# Altium integrated library Cypress USB Controllers.IntLib: 169 symbols (part 3 of 16)
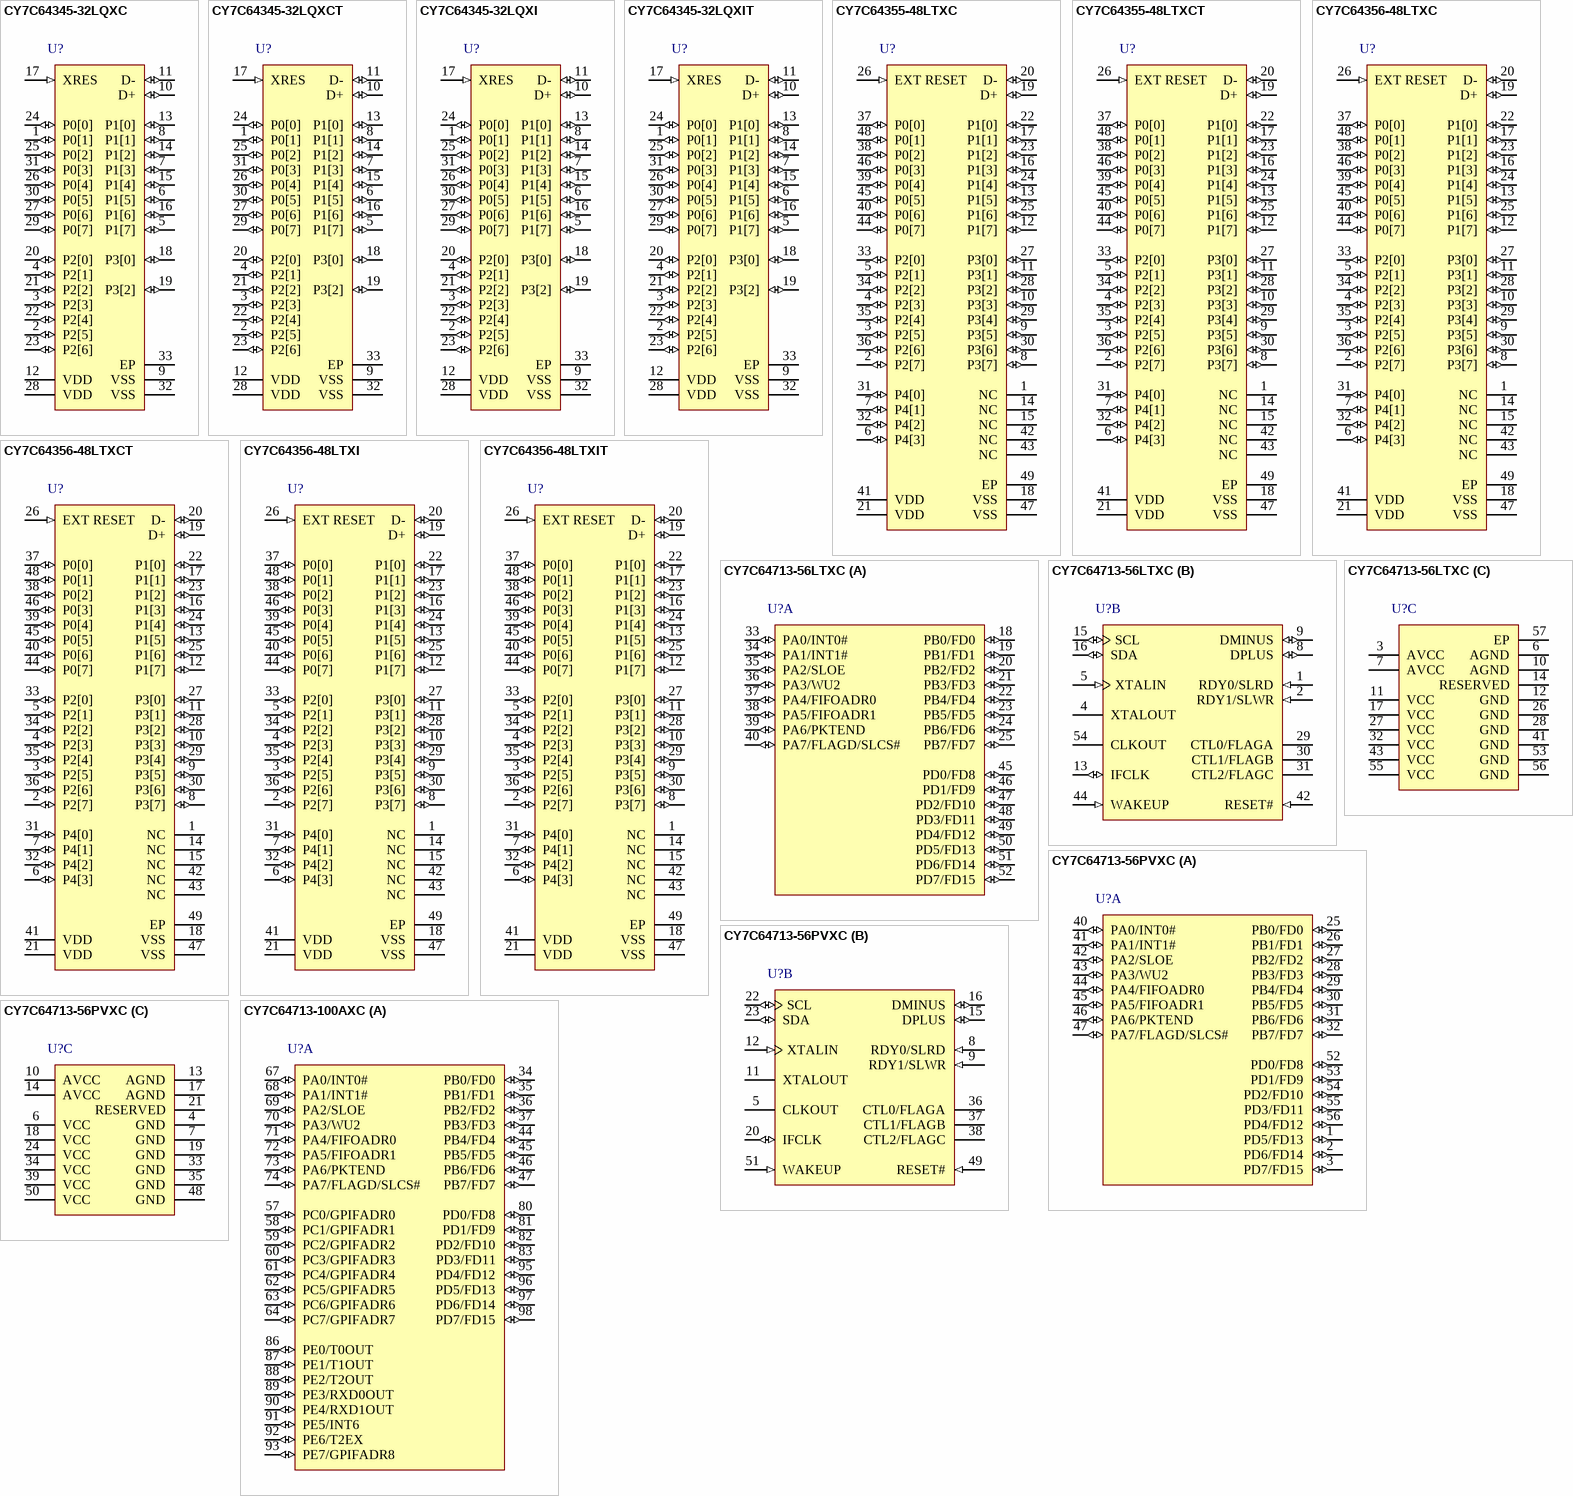
[diagram p24: symbols CY7C64345-32LQXC to CY7C64713-100AXC]

## CY7C64345-32LQXC
designator U?
enCoRe(TM) V Full Speed USB Controller, 16 KB, 25 I/Os, 3 to 5.5 V, 0 to 70 degC, 32-Pin QFN (LQX32), Tray; Manufacturer: Cypress; PartNumber: CY7C64345-32LQXC; CPU Core: M8C; Max. Operating Voltage (V): 5.5; Memory Architecture: Flash; Memory Size (KB): 16; Min. Operating Voltage (V): 3; No. of I/Os: 25; DatasheetVersion: Rev. *R; PackageVersion: Rev. *E; PackageReference: LQX32; PackageDescription: 32-Pin QFN (5 x 4 x 0.55 mm) LQ32 3.5 x 3.5 E-Pad (Sawn); Supplier 1: Digi-Key; Supplier Part Number 1: 428-2887-ND; Supplier 2: Mouser; Supplier Part Number 2: 727-CY7C64345-32LXC; Max. Operating Temp. (degreesC): 70; Min. Operating Temp. (degreesC): 0; Packing: Tray; RoHS: Pb-Free; Mounting Technology: Surface Mount; Code_JEDEC: MO-248; ComponentLink1Description: Manufacturer URL; ComponentLink1URL: http://www.cypress.com/; ComponentLink2Description: Datasheet; ComponentLink2URL: http://www.cypress.com/?docID=46968; ComponentLink3Description: Package Specification; ComponentLink3URL: http://www.cypress.com/?docID=46968
footprint CYP-LQX32_N (QFN, 32-Leads, Body 5x5mm, Pitch 0.5mm, Thermal Pad 3.5x3.5mm, IPC Medium Density)
footprint CYP-LQX32_L (QFN, 32-Leads, Body 5x5mm, Pitch 0.5mm, Thermal Pad 3.5X3.5mm, IPC High Density)
footprint CYP-LQX32_M (QFN, 32-Leads, Body 5x5mm, Pitch 0.5mm, Thermal Pad 3.5x3.5mm, IPC Low Density)
pins: 1 P0[1] (io) "Digital I/O", 2 P2[5] (io) "Digital I/O, crystal output (Xout)", 3 P2[3] (io) "Digital I/O, crystal Input (Xin)", 4 P2[1] (io) "Digital I/O", 5 P1[7] (io) "Digital I/O, I2C SCL, SPI SS", 6 P1[5] (io) "Digital I/O, I2C SDA, SPI MISO", 7 P1[3] (io) "Digital I/O, SPI CLK", 8 P1[1] (io) "Digital I/O, ISSP CLK, I2C SCL, SPI MOSI", 9 VSS (power) "Ground", 10 D+ (io) "USB PHY", 11 D- (io) "USB PHY", 12 VDD (power) "Supply voltage", 13 P1[0] (io) "Digital I/O, ISSP DATA, I2C SDA, SPI CLK", 14 P1[2] (io) "Digital I/O", 15 P1[4] (io) "Digital I/O, optional external clock input (EXTCLK)", 16 P1[6] (io) "Digital I/O", 17 XRES (in) "Active high external reset with internal pull down", 18 P3[0] (io) "Digital I/O", 19 P3[2] (io) "Digital I/O", 20 P2[0] (io) "Digital I/O", 21 P2[2] (io) "Digital I/O", 22 P2[4] (io) "Digital I/O", 23 P2[6] (io) "Digital I/O", 24 P0[0] (io) "Digital I/O", 25 P0[2] (io) "Digital I/O", 26 P0[4] (io) "Digital I/O", 27 P0[6] (io) "Digital I/O", 28 VDD (power) "Supply voltage", 29 P0[7] (io) "Digital I/O", 30 P0[5] (io) "Digital I/O", 31 P0[3] (io) "Digital I/O", 32 VSS (power) "Ground", 33 EP (power) "Ensure the center pad is connected to ground"

## CY7C64345-32LQXCT
designator U?
enCoRe(TM) V Full Speed USB Controller, 16 KB, 25 I/Os, 3 to 5.5 V, 0 to 70 degC, 32-Pin QFN (LQX32), Tape and Reel; Manufacturer: Cypress; PartNumber: CY7C64345-32LQXCT; CPU Core: M8C; Max. Operating Voltage (V): 5.5; Memory Architecture: Flash; Memory Size (KB): 16; Min. Operating Voltage (V): 3; No. of I/Os: 25; DatasheetVersion: Rev. *R; PackageVersion: Rev. *E; PackageReference: LQX32; PackageDescription: 32-Pin QFN (5 x 4 x 0.55 mm) LQ32 3.5 x 3.5 E-Pad (Sawn); Supplier 1: Digi-Key; Supplier Part Number 1: CY7C64345-32LQXCT-ND; Supplier 2: Mouser; Supplier Part Number 2: 727-CY7C64345-32LQXC; Max. Operating Temp. (degreesC): 70; Min. Operating Temp. (degreesC): 0; Packing: Tape and Reel; RoHS: Pb-Free; Mounting Technology: Surface Mount; Code_JEDEC: MO-248; ComponentLink1Description: Manufacturer URL; ComponentLink1URL: http://www.cypress.com/; ComponentLink2Description: Datasheet; ComponentLink2URL: http://www.cypress.com/?docID=46968; ComponentLink3Description: Package Specification; ComponentLink3URL: http://www.cypress.com/?docID=46968
footprint CYP-LQX32_N (QFN, 32-Leads, Body 5x5mm, Pitch 0.5mm, Thermal Pad 3.5x3.5mm, IPC Medium Density)
footprint CYP-LQX32_L (QFN, 32-Leads, Body 5x5mm, Pitch 0.5mm, Thermal Pad 3.5X3.5mm, IPC High Density)
footprint CYP-LQX32_M (QFN, 32-Leads, Body 5x5mm, Pitch 0.5mm, Thermal Pad 3.5x3.5mm, IPC Low Density)
pins: 1 P0[1] (io) "Digital I/O", 2 P2[5] (io) "Digital I/O, crystal output (Xout)", 3 P2[3] (io) "Digital I/O, crystal Input (Xin)", 4 P2[1] (io) "Digital I/O", 5 P1[7] (io) "Digital I/O, I2C SCL, SPI SS", 6 P1[5] (io) "Digital I/O, I2C SDA, SPI MISO", 7 P1[3] (io) "Digital I/O, SPI CLK", 8 P1[1] (io) "Digital I/O, ISSP CLK, I2C SCL, SPI MOSI", 9 VSS (power) "Ground", 10 D+ (io) "USB PHY", 11 D- (io) "USB PHY", 12 VDD (power) "Supply voltage", 13 P1[0] (io) "Digital I/O, ISSP DATA, I2C SDA, SPI CLK", 14 P1[2] (io) "Digital I/O", 15 P1[4] (io) "Digital I/O, optional external clock input (EXTCLK)", 16 P1[6] (io) "Digital I/O", 17 XRES (in) "Active high external reset with internal pull down", 18 P3[0] (io) "Digital I/O", 19 P3[2] (io) "Digital I/O", 20 P2[0] (io) "Digital I/O", 21 P2[2] (io) "Digital I/O", 22 P2[4] (io) "Digital I/O", 23 P2[6] (io) "Digital I/O", 24 P0[0] (io) "Digital I/O", 25 P0[2] (io) "Digital I/O", 26 P0[4] (io) "Digital I/O", 27 P0[6] (io) "Digital I/O", 28 VDD (power) "Supply voltage", 29 P0[7] (io) "Digital I/O", 30 P0[5] (io) "Digital I/O", 31 P0[3] (io) "Digital I/O", 32 VSS (power) "Ground", 33 EP (power) "Ensure the center pad is connected to ground"

## CY7C64345-32LQXI
designator U?
enCoRe(TM) V Full Speed USB Controller, 16 KB, 25 I/Os, 3 to 5.5 V, -40 to 85 degC, 32-Pin QFN (LQX32); Manufacturer: Cypress; PartNumber: CY7C64345-32LQXI; CPU Core: M8C; Max. Operating Voltage (V): 5.5; Memory Architecture: Flash; Memory Size (KB): 16; Min. Operating Voltage (V): 3; No. of I/Os: 25; DatasheetVersion: Rev. *R; PackageVersion: Rev. *E; PackageReference: LQX32; PackageDescription: 32-Pin QFN (5 x 4 x 0.55 mm) LQ32 3.5 x 3.5 E-Pad (Sawn); Max. Operating Temp. (degreesC): 85; Min. Operating Temp. (degreesC): -40; RoHS: Pb-Free; Mounting Technology: Surface Mount; Code_JEDEC: MO-248; ComponentLink1Description: Manufacturer URL; ComponentLink1URL: http://www.cypress.com/; ComponentLink2Description: Datasheet; ComponentLink2URL: http://www.cypress.com/?docID=46968; ComponentLink3Description: Package Specification; ComponentLink3URL: http://www.cypress.com/?docID=46968
footprint CYP-LQX32_N (QFN, 32-Leads, Body 5x5mm, Pitch 0.5mm, Thermal Pad 3.5x3.5mm, IPC Medium Density)
footprint CYP-LQX32_L (QFN, 32-Leads, Body 5x5mm, Pitch 0.5mm, Thermal Pad 3.5X3.5mm, IPC High Density)
footprint CYP-LQX32_M (QFN, 32-Leads, Body 5x5mm, Pitch 0.5mm, Thermal Pad 3.5x3.5mm, IPC Low Density)
pins: 1 P0[1] (io) "Digital I/O", 2 P2[5] (io) "Digital I/O, crystal output (Xout)", 3 P2[3] (io) "Digital I/O, crystal Input (Xin)", 4 P2[1] (io) "Digital I/O", 5 P1[7] (io) "Digital I/O, I2C SCL, SPI SS", 6 P1[5] (io) "Digital I/O, I2C SDA, SPI MISO", 7 P1[3] (io) "Digital I/O, SPI CLK", 8 P1[1] (io) "Digital I/O, ISSP CLK, I2C SCL, SPI MOSI", 9 VSS (power) "Ground", 10 D+ (io) "USB PHY", 11 D- (io) "USB PHY", 12 VDD (power) "Supply voltage", 13 P1[0] (io) "Digital I/O, ISSP DATA, I2C SDA, SPI CLK", 14 P1[2] (io) "Digital I/O", 15 P1[4] (io) "Digital I/O, optional external clock input (EXTCLK)", 16 P1[6] (io) "Digital I/O", 17 XRES (in) "Active high external reset with internal pull down", 18 P3[0] (io) "Digital I/O", 19 P3[2] (io) "Digital I/O", 20 P2[0] (io) "Digital I/O", 21 P2[2] (io) "Digital I/O", 22 P2[4] (io) "Digital I/O", 23 P2[6] (io) "Digital I/O", 24 P0[0] (io) "Digital I/O", 25 P0[2] (io) "Digital I/O", 26 P0[4] (io) "Digital I/O", 27 P0[6] (io) "Digital I/O", 28 VDD (power) "Supply voltage", 29 P0[7] (io) "Digital I/O", 30 P0[5] (io) "Digital I/O", 31 P0[3] (io) "Digital I/O", 32 VSS (power) "Ground", 33 EP (power) "Ensure the center pad is connected to ground"

## CY7C64345-32LQXIT
designator U?
enCoRe(TM) V Full Speed USB Controller, 16 KB, 25 I/Os, 3 to 5.5 V, -40 to 85 degC, 32-Pin QFN (LQX32), Tape and Reel; Manufacturer: Cypress; PartNumber: CY7C64345-32LQXIT; CPU Core: M8C; Max. Operating Voltage (V): 5.5; Memory Architecture: Flash; Memory Size (KB): 16; Min. Operating Voltage (V): 3; No. of I/Os: 25; DatasheetVersion: Rev. *R; PackageVersion: Rev. *E; PackageReference: LQX32; PackageDescription: 32-Pin QFN (5 x 4 x 0.55 mm) LQ32 3.5 x 3.5 E-Pad (Sawn); Max. Operating Temp. (degreesC): 85; Min. Operating Temp. (degreesC): -40; Packing: Tape and Reel; RoHS: Pb-Free; Mounting Technology: Surface Mount; Code_JEDEC: MO-248; ComponentLink1Description: Manufacturer URL; ComponentLink1URL: http://www.cypress.com/; ComponentLink2Description: Datasheet; ComponentLink2URL: http://www.cypress.com/?docID=46968; ComponentLink3Description: Package Specification; ComponentLink3URL: http://www.cypress.com/?docID=46968
footprint CYP-LQX32_N (QFN, 32-Leads, Body 5x5mm, Pitch 0.5mm, Thermal Pad 3.5x3.5mm, IPC Medium Density)
footprint CYP-LQX32_L (QFN, 32-Leads, Body 5x5mm, Pitch 0.5mm, Thermal Pad 3.5X3.5mm, IPC High Density)
footprint CYP-LQX32_M (QFN, 32-Leads, Body 5x5mm, Pitch 0.5mm, Thermal Pad 3.5x3.5mm, IPC Low Density)
pins: 1 P0[1] (io) "Digital I/O", 2 P2[5] (io) "Digital I/O, crystal output (Xout)", 3 P2[3] (io) "Digital I/O, crystal Input (Xin)", 4 P2[1] (io) "Digital I/O", 5 P1[7] (io) "Digital I/O, I2C SCL, SPI SS", 6 P1[5] (io) "Digital I/O, I2C SDA, SPI MISO", 7 P1[3] (io) "Digital I/O, SPI CLK", 8 P1[1] (io) "Digital I/O, ISSP CLK, I2C SCL, SPI MOSI", 9 VSS (power) "Ground", 10 D+ (io) "USB PHY", 11 D- (io) "USB PHY", 12 VDD (power) "Supply voltage", 13 P1[0] (io) "Digital I/O, ISSP DATA, I2C SDA, SPI CLK", 14 P1[2] (io) "Digital I/O", 15 P1[4] (io) "Digital I/O, optional external clock input (EXTCLK)", 16 P1[6] (io) "Digital I/O", 17 XRES (in) "Active high external reset with internal pull down", 18 P3[0] (io) "Digital I/O", 19 P3[2] (io) "Digital I/O", 20 P2[0] (io) "Digital I/O", 21 P2[2] (io) "Digital I/O", 22 P2[4] (io) "Digital I/O", 23 P2[6] (io) "Digital I/O", 24 P0[0] (io) "Digital I/O", 25 P0[2] (io) "Digital I/O", 26 P0[4] (io) "Digital I/O", 27 P0[6] (io) "Digital I/O", 28 VDD (power) "Supply voltage", 29 P0[7] (io) "Digital I/O", 30 P0[5] (io) "Digital I/O", 31 P0[3] (io) "Digital I/O", 32 VSS (power) "Ground", 33 EP (power) "Ensure the center pad is connected to ground"

## CY7C64355-48LTXC
designator U?
enCoRe(TM) V Full Speed USB Controller, 16 KB, 36 I/Os, 3 to 5.5 V, 0 to 70 degC, 48-Pin QFN (LTX48A), Tray; Manufacturer: Cypress; PartNumber: CY7C64355-48LTXC; CPU Core: M8C; Max. Operating Voltage (V): 5.5; Memory Architecture: Flash; Memory Size (KB): 16; Min. Operating Voltage (V): 3; No. of I/Os: 36; DatasheetVersion: Rev. *R; PackageVersion: Rev. *F, 01/2012; PackageReference: LTX48A; PackageDescription: 48-Pin Quad Flat No Lead, Body 7 x 7 mm, Pitch 0.5 mm; Supplier 1: Digi-Key; Supplier Part Number 1: 428-2889-ND; Supplier 2: Mouser; Supplier Part Number 2: 727-CY7C64355-48LTXC; Max. Operating Temp. (degreesC): 70; Min. Operating Temp. (degreesC): 0; Packing: Tray; RoHS: Pb-Free; Mounting Technology: Surface Mount; Code_JEDEC: MO-220; ComponentLink1Description: Manufacturer URL; ComponentLink1URL: http://www.cypress.com/; ComponentLink2Description: Datasheet; ComponentLink2URL: http://www.cypress.com/?docID=46968; ComponentLink3Description: Package Specification; ComponentLink3URL: http://www.cypress.com/?docID=37398
footprint CYP-LTX48A_N (QFN, 48-Leads, Body 7x7mm, Pitch 0.5mm, Thermal Pad 5.1x5.1mm, IPC Medium Density)
footprint CYP-LTX48A_L (QFN, 48-Leads, Body 7x7mm, Pitch 0.5mm, Thermal Pad 5.1x5.1mm, IPC High Density)
footprint CYP-LTX48A_M (QFN, 48-Leads, Body 7x7mm, Pitch 0.5mm, Thermal Pad 5.1x5.1mm, IPC Low Density)
pins: 1 NC "No connection", 2 P2[7] (io) "Digital I/O", 3 P2[5] (io) "Digital I/O, crystal out (Xout)", 4 P2[3] (io) "Digital I/O, crystal in (Xin)", 5 P2[1] (io) "Digital I/O", 6 P4[3] (io) "Digital I/O", 7 P4[1] (io) "Digital I/O", 8 P3[7] (io) "Digital I/O", 9 P3[5] (io) "Digital I/O", 10 P3[3] (io) "Digital I/O", 11 P3[1] (io) "Digital I/O", 12 P1[7] (io) "Digital I/O, I2C SCL, SPI SS", 13 P1[5] (io) "Digital I/O, I2C SDA, SPI MISO", 14 NC "No connection", 15 NC "No connection", 16 P1[3] (io) "Digital I/O, SPI CLK", 17 P1[1] (io) "Digital I/O, ISSP CLK, I2C SCL, SPI MOSI", 18 VSS (power) "Supply ground", 19 D+ (io) "USB", 20 D- (io) "USB", 21 VDD (power) "Supply voltage", 22 P1[0] (io) "Digital I/O, ISSP DATA, I2C SDA, SPI CLK", 23 P1[2] (io) "Digital I/O", 24 P1[4] (io) "Digital I/O, optional external clock input (EXTCLK)", 25 P1[6] (io) "Digital I/O", 26 EXT RESET (in) "Active high external reset with internal pull down", 27 P3[0] (io) "Digital I/O", 28 P3[2] (io) "Digital I/O", 29 P3[4] (io) "Digital I/O", 30 P3[6] (io) "Digital I/O", 31 P4[0] (io) "Digital I/O", 32 P4[2] (io) "Digital I/O", 33 P2[0] (io) "Digital I/O", 34 P2[2] (io) "Digital I/O", 35 P2[4] (io) "Digital I/O", 36 P2[6] (io) "Digital I/O", 37 P0[0] (io) "Digital I/O", 38 P0[2] (io) "Digital I/O", 39 P0[4] (io) "Digital I/O", 40 P0[6] (io) "Digital I/O", 41 VDD (power) "Supply voltage", 42 NC "No connection", 43 NC "No connection", 44 P0[7] (io) "Digital I/O", 45 P0[5] (io) "Digital I/O", 46 P0[3] (io) "Digital I/O", 47 VSS (power) "Supply ground", 48 P0[1] (io) "Digital I/O", 49 EP (power) "Ensure the center pad is connected to ground"

## CY7C64355-48LTXCT
designator U?
enCoRe(TM) V Full Speed USB Controller, 16 KB, 36 I/Os, 3 to 5.5 V, 0 to 70 degC, 48-Pin QFN (LTX48A), Tape and Reel; Manufacturer: Cypress; PartNumber: CY7C64355-48LTXCT; CPU Core: M8C; Max. Operating Voltage (V): 5.5; Memory Architecture: Flash; Memory Size (KB): 16; Min. Operating Voltage (V): 3; No. of I/Os: 36; DatasheetVersion: Rev. *R; PackageVersion: Rev. *F, 01/2012; PackageReference: LTX48A; PackageDescription: 48-Pin Quad Flat No Lead, Body 7 x 7 mm, Pitch 0.5 mm; Supplier 1: Digi-Key; Supplier Part Number 1: CY7C64355-48LTXCT-ND; Supplier 2: Mouser; Supplier Part Number 2: 727-CY7C6435548LTXCT; Max. Operating Temp. (degreesC): 70; Min. Operating Temp. (degreesC): 0; Packing: Tape and Reel; RoHS: Pb-Free; Mounting Technology: Surface Mount; Code_JEDEC: MO-220; ComponentLink1Description: Manufacturer URL; ComponentLink1URL: http://www.cypress.com/; ComponentLink2Description: Datasheet; ComponentLink2URL: http://www.cypress.com/?docID=46968; ComponentLink3Description: Package Specification; ComponentLink3URL: http://www.cypress.com/?docID=37398
footprint CYP-LTX48A_N (QFN, 48-Leads, Body 7x7mm, Pitch 0.5mm, Thermal Pad 5.1x5.1mm, IPC Medium Density)
footprint CYP-LTX48A_L (QFN, 48-Leads, Body 7x7mm, Pitch 0.5mm, Thermal Pad 5.1x5.1mm, IPC High Density)
footprint CYP-LTX48A_M (QFN, 48-Leads, Body 7x7mm, Pitch 0.5mm, Thermal Pad 5.1x5.1mm, IPC Low Density)
pins: 1 NC "No connection", 2 P2[7] (io) "Digital I/O", 3 P2[5] (io) "Digital I/O, crystal out (Xout)", 4 P2[3] (io) "Digital I/O, crystal in (Xin)", 5 P2[1] (io) "Digital I/O", 6 P4[3] (io) "Digital I/O", 7 P4[1] (io) "Digital I/O", 8 P3[7] (io) "Digital I/O", 9 P3[5] (io) "Digital I/O", 10 P3[3] (io) "Digital I/O", 11 P3[1] (io) "Digital I/O", 12 P1[7] (io) "Digital I/O, I2C SCL, SPI SS", 13 P1[5] (io) "Digital I/O, I2C SDA, SPI MISO", 14 NC "No connection", 15 NC "No connection", 16 P1[3] (io) "Digital I/O, SPI CLK", 17 P1[1] (io) "Digital I/O, ISSP CLK, I2C SCL, SPI MOSI", 18 VSS (power) "Supply ground", 19 D+ (io) "USB", 20 D- (io) "USB", 21 VDD (power) "Supply voltage", 22 P1[0] (io) "Digital I/O, ISSP DATA, I2C SDA, SPI CLK", 23 P1[2] (io) "Digital I/O", 24 P1[4] (io) "Digital I/O, optional external clock input (EXTCLK)", 25 P1[6] (io) "Digital I/O", 26 EXT RESET (in) "Active high external reset with internal pull down", 27 P3[0] (io) "Digital I/O", 28 P3[2] (io) "Digital I/O", 29 P3[4] (io) "Digital I/O", 30 P3[6] (io) "Digital I/O", 31 P4[0] (io) "Digital I/O", 32 P4[2] (io) "Digital I/O", 33 P2[0] (io) "Digital I/O", 34 P2[2] (io) "Digital I/O", 35 P2[4] (io) "Digital I/O", 36 P2[6] (io) "Digital I/O", 37 P0[0] (io) "Digital I/O", 38 P0[2] (io) "Digital I/O", 39 P0[4] (io) "Digital I/O", 40 P0[6] (io) "Digital I/O", 41 VDD (power) "Supply voltage", 42 NC "No connection", 43 NC "No connection", 44 P0[7] (io) "Digital I/O", 45 P0[5] (io) "Digital I/O", 46 P0[3] (io) "Digital I/O", 47 VSS (power) "Supply ground", 48 P0[1] (io) "Digital I/O", 49 EP (power) "Ensure the center pad is connected to ground"

## CY7C64356-48LTXC
designator U?
enCoRe(TM) V Full Speed USB Controller, 32 KB, 36 I/Os, 3 to 5.5 V, 0 to 70 degC, 48-Pin QFN (LTX48A), Tray; Manufacturer: Cypress; PartNumber: CY7C64356-48LTXC; CPU Core: M8C; Max. Operating Voltage (V): 5.5; Memory Architecture: Flash; Memory Size (KB): 32; Min. Operating Voltage (V): 3; No. of I/Os: 36; DatasheetVersion: Rev. *R; PackageVersion: Rev. *F, 01/2012; PackageReference: LTX48A; PackageDescription: 48-Pin Quad Flat No Lead, Body 7 x 7 mm, Pitch 0.5 mm; Supplier 1: Digi-Key; Supplier Part Number 1: 428-2890-ND; Supplier 2: Mouser; Supplier Part Number 2: 727-CY7C64356-48TXC; Max. Operating Temp. (degreesC): 70; Min. Operating Temp. (degreesC): 0; Packing: Tray; RoHS: Pb-Free; Mounting Technology: Surface Mount; Code_JEDEC: MO-220; ComponentLink1Description: Manufacturer URL; ComponentLink1URL: http://www.cypress.com/; ComponentLink2Description: Datasheet; ComponentLink2URL: http://www.cypress.com/?docID=46968; ComponentLink3Description: Package Specification; ComponentLink3URL: http://www.cypress.com/?docID=37398
footprint CYP-LTX48A_N (QFN, 48-Leads, Body 7x7mm, Pitch 0.5mm, Thermal Pad 5.1x5.1mm, IPC Medium Density)
footprint CYP-LTX48A_L (QFN, 48-Leads, Body 7x7mm, Pitch 0.5mm, Thermal Pad 5.1x5.1mm, IPC High Density)
footprint CYP-LTX48A_M (QFN, 48-Leads, Body 7x7mm, Pitch 0.5mm, Thermal Pad 5.1x5.1mm, IPC Low Density)
pins: 1 NC "No connection", 2 P2[7] (io) "Digital I/O", 3 P2[5] (io) "Digital I/O, crystal out (Xout)", 4 P2[3] (io) "Digital I/O, crystal in (Xin)", 5 P2[1] (io) "Digital I/O", 6 P4[3] (io) "Digital I/O", 7 P4[1] (io) "Digital I/O", 8 P3[7] (io) "Digital I/O", 9 P3[5] (io) "Digital I/O", 10 P3[3] (io) "Digital I/O", 11 P3[1] (io) "Digital I/O", 12 P1[7] (io) "Digital I/O, I2C SCL, SPI SS", 13 P1[5] (io) "Digital I/O, I2C SDA, SPI MISO", 14 NC "No connection", 15 NC "No connection", 16 P1[3] (io) "Digital I/O, SPI CLK", 17 P1[1] (io) "Digital I/O, ISSP CLK, I2C SCL, SPI MOSI", 18 VSS (power) "Supply ground", 19 D+ (io) "USB", 20 D- (io) "USB", 21 VDD (power) "Supply voltage", 22 P1[0] (io) "Digital I/O, ISSP DATA, I2C SDA, SPI CLK", 23 P1[2] (io) "Digital I/O", 24 P1[4] (io) "Digital I/O, optional external clock input (EXTCLK)", 25 P1[6] (io) "Digital I/O", 26 EXT RESET (in) "Active high external reset with internal pull down", 27 P3[0] (io) "Digital I/O", 28 P3[2] (io) "Digital I/O", 29 P3[4] (io) "Digital I/O", 30 P3[6] (io) "Digital I/O", 31 P4[0] (io) "Digital I/O", 32 P4[2] (io) "Digital I/O", 33 P2[0] (io) "Digital I/O", 34 P2[2] (io) "Digital I/O", 35 P2[4] (io) "Digital I/O", 36 P2[6] (io) "Digital I/O", 37 P0[0] (io) "Digital I/O", 38 P0[2] (io) "Digital I/O", 39 P0[4] (io) "Digital I/O", 40 P0[6] (io) "Digital I/O", 41 VDD (power) "Supply voltage", 42 NC "No connection", 43 NC "No connection", 44 P0[7] (io) "Digital I/O", 45 P0[5] (io) "Digital I/O", 46 P0[3] (io) "Digital I/O", 47 VSS (power) "Supply ground", 48 P0[1] (io) "Digital I/O", 49 EP (power) "Ensure the center pad is connected to ground"

## CY7C64356-48LTXCT
designator U?
enCoRe(TM) V Full Speed USB Controller, 32 KB, 36 I/Os, 3 to 5.5 V, 0 to 70 degC, 48-Pin QFN (LTX48A), Tape and Reel; Manufacturer: Cypress; PartNumber: CY7C64356-48LTXCT; CPU Core: M8C; Max. Operating Voltage (V): 5.5; Memory Architecture: Flash; Memory Size (KB): 32; Min. Operating Voltage (V): 3; No. of I/Os: 36; DatasheetVersion: Rev. *R; PackageVersion: Rev. *F, 01/2012; PackageReference: LTX48A; PackageDescription: 48-Pin Quad Flat No Lead, Body 7 x 7 mm, Pitch 0.5 mm; Supplier 1: Digi-Key; Supplier Part Number 1: CY7C64356-48LTXCT-ND; Supplier 2: Mouser; Supplier Part Number 2: 727-CY7C64356-48LTXC; Max. Operating Temp. (degreesC): 70; Min. Operating Temp. (degreesC): 0; Packing: Tape and Reel; RoHS: Pb-Free; Mounting Technology: Surface Mount; Code_JEDEC: MO-220; ComponentLink1Description: Manufacturer URL; ComponentLink1URL: http://www.cypress.com/; ComponentLink2Description: Datasheet; ComponentLink2URL: http://www.cypress.com/?docID=46968; ComponentLink3Description: Package Specification; ComponentLink3URL: http://www.cypress.com/?docID=37398
footprint CYP-LTX48A_N (QFN, 48-Leads, Body 7x7mm, Pitch 0.5mm, Thermal Pad 5.1x5.1mm, IPC Medium Density)
footprint CYP-LTX48A_L (QFN, 48-Leads, Body 7x7mm, Pitch 0.5mm, Thermal Pad 5.1x5.1mm, IPC High Density)
footprint CYP-LTX48A_M (QFN, 48-Leads, Body 7x7mm, Pitch 0.5mm, Thermal Pad 5.1x5.1mm, IPC Low Density)
pins: 1 NC "No connection", 2 P2[7] (io) "Digital I/O", 3 P2[5] (io) "Digital I/O, crystal out (Xout)", 4 P2[3] (io) "Digital I/O, crystal in (Xin)", 5 P2[1] (io) "Digital I/O", 6 P4[3] (io) "Digital I/O", 7 P4[1] (io) "Digital I/O", 8 P3[7] (io) "Digital I/O", 9 P3[5] (io) "Digital I/O", 10 P3[3] (io) "Digital I/O", 11 P3[1] (io) "Digital I/O", 12 P1[7] (io) "Digital I/O, I2C SCL, SPI SS", 13 P1[5] (io) "Digital I/O, I2C SDA, SPI MISO", 14 NC "No connection", 15 NC "No connection", 16 P1[3] (io) "Digital I/O, SPI CLK", 17 P1[1] (io) "Digital I/O, ISSP CLK, I2C SCL, SPI MOSI", 18 VSS (power) "Supply ground", 19 D+ (io) "USB", 20 D- (io) "USB", 21 VDD (power) "Supply voltage", 22 P1[0] (io) "Digital I/O, ISSP DATA, I2C SDA, SPI CLK", 23 P1[2] (io) "Digital I/O", 24 P1[4] (io) "Digital I/O, optional external clock input (EXTCLK)", 25 P1[6] (io) "Digital I/O", 26 EXT RESET (in) "Active high external reset with internal pull down", 27 P3[0] (io) "Digital I/O", 28 P3[2] (io) "Digital I/O", 29 P3[4] (io) "Digital I/O", 30 P3[6] (io) "Digital I/O", 31 P4[0] (io) "Digital I/O", 32 P4[2] (io) "Digital I/O", 33 P2[0] (io) "Digital I/O", 34 P2[2] (io) "Digital I/O", 35 P2[4] (io) "Digital I/O", 36 P2[6] (io) "Digital I/O", 37 P0[0] (io) "Digital I/O", 38 P0[2] (io) "Digital I/O", 39 P0[4] (io) "Digital I/O", 40 P0[6] (io) "Digital I/O", 41 VDD (power) "Supply voltage", 42 NC "No connection", 43 NC "No connection", 44 P0[7] (io) "Digital I/O", 45 P0[5] (io) "Digital I/O", 46 P0[3] (io) "Digital I/O", 47 VSS (power) "Supply ground", 48 P0[1] (io) "Digital I/O", 49 EP (power) "Ensure the center pad is connected to ground"

## CY7C64356-48LTXI
designator U?
enCoRe(TM) V Full Speed USB Controller, 32 KB, 36 I/Os, 3 to 5.5 V, -40 to 85 degC, 48-Pin QFN (LTX48A); Manufacturer: Cypress; PartNumber: CY7C64356-48LTXI; CPU Core: M8C; Max. Operating Voltage (V): 5.5; Memory Architecture: Flash; Memory Size (KB): 32; Min. Operating Voltage (V): 3; No. of I/Os: 36; DatasheetVersion: Rev. *R; PackageVersion: Rev. *F, 01/2012; PackageReference: LTX48A; PackageDescription: 48-Pin Quad Flat No Lead, Body 7 x 7 mm, Pitch 0.5 mm; Max. Operating Temp. (degreesC): 85; Min. Operating Temp. (degreesC): -40; RoHS: Pb-Free; Mounting Technology: Surface Mount; Code_JEDEC: MO-220; ComponentLink1Description: Manufacturer URL; ComponentLink1URL: http://www.cypress.com/; ComponentLink2Description: Datasheet; ComponentLink2URL: http://www.cypress.com/?docID=46968; ComponentLink3Description: Package Specification; ComponentLink3URL: http://www.cypress.com/?docID=37398
footprint CYP-LTX48A_N (QFN, 48-Leads, Body 7x7mm, Pitch 0.5mm, Thermal Pad 5.1x5.1mm, IPC Medium Density)
footprint CYP-LTX48A_L (QFN, 48-Leads, Body 7x7mm, Pitch 0.5mm, Thermal Pad 5.1x5.1mm, IPC High Density)
footprint CYP-LTX48A_M (QFN, 48-Leads, Body 7x7mm, Pitch 0.5mm, Thermal Pad 5.1x5.1mm, IPC Low Density)
pins: 1 NC "No connection", 2 P2[7] (io) "Digital I/O", 3 P2[5] (io) "Digital I/O, crystal out (Xout)", 4 P2[3] (io) "Digital I/O, crystal in (Xin)", 5 P2[1] (io) "Digital I/O", 6 P4[3] (io) "Digital I/O", 7 P4[1] (io) "Digital I/O", 8 P3[7] (io) "Digital I/O", 9 P3[5] (io) "Digital I/O", 10 P3[3] (io) "Digital I/O", 11 P3[1] (io) "Digital I/O", 12 P1[7] (io) "Digital I/O, I2C SCL, SPI SS", 13 P1[5] (io) "Digital I/O, I2C SDA, SPI MISO", 14 NC "No connection", 15 NC "No connection", 16 P1[3] (io) "Digital I/O, SPI CLK", 17 P1[1] (io) "Digital I/O, ISSP CLK, I2C SCL, SPI MOSI", 18 VSS (power) "Supply ground", 19 D+ (io) "USB", 20 D- (io) "USB", 21 VDD (power) "Supply voltage", 22 P1[0] (io) "Digital I/O, ISSP DATA, I2C SDA, SPI CLK", 23 P1[2] (io) "Digital I/O", 24 P1[4] (io) "Digital I/O, optional external clock input (EXTCLK)", 25 P1[6] (io) "Digital I/O", 26 EXT RESET (in) "Active high external reset with internal pull down", 27 P3[0] (io) "Digital I/O", 28 P3[2] (io) "Digital I/O", 29 P3[4] (io) "Digital I/O", 30 P3[6] (io) "Digital I/O", 31 P4[0] (io) "Digital I/O", 32 P4[2] (io) "Digital I/O", 33 P2[0] (io) "Digital I/O", 34 P2[2] (io) "Digital I/O", 35 P2[4] (io) "Digital I/O", 36 P2[6] (io) "Digital I/O", 37 P0[0] (io) "Digital I/O", 38 P0[2] (io) "Digital I/O", 39 P0[4] (io) "Digital I/O", 40 P0[6] (io) "Digital I/O", 41 VDD (power) "Supply voltage", 42 NC "No connection", 43 NC "No connection", 44 P0[7] (io) "Digital I/O", 45 P0[5] (io) "Digital I/O", 46 P0[3] (io) "Digital I/O", 47 VSS (power) "Supply ground", 48 P0[1] (io) "Digital I/O", 49 EP (power) "Ensure the center pad is connected to ground"

## CY7C64356-48LTXIT
designator U?
enCoRe(TM) V Full Speed USB Controller, 32 KB, 36 I/Os, 3 to 5.5 V, -40 to 85 degC, 48-Pin QFN (LTX48A), Tape and Reel; Manufacturer: Cypress; PartNumber: CY7C64356-48LTXIT; CPU Core: M8C; Max. Operating Voltage (V): 5.5; Memory Architecture: Flash; Memory Size (KB): 32; Min. Operating Voltage (V): 3; No. of I/Os: 36; DatasheetVersion: Rev. *R; PackageVersion: Rev. *F, 01/2012; PackageReference: LTX48A; PackageDescription: 48-Pin Quad Flat No Lead, Body 7 x 7 mm, Pitch 0.5 mm; Max. Operating Temp. (degreesC): 85; Min. Operating Temp. (degreesC): -40; Packing: Tape and Reel; RoHS: Pb-Free; Mounting Technology: Surface Mount; Code_JEDEC: MO-220; ComponentLink1Description: Manufacturer URL; ComponentLink1URL: http://www.cypress.com/; ComponentLink2Description: Datasheet; ComponentLink2URL: http://www.cypress.com/?docID=46968; ComponentLink3Description: Package Specification; ComponentLink3URL: http://www.cypress.com/?docID=37398
footprint CYP-LTX48A_N (QFN, 48-Leads, Body 7x7mm, Pitch 0.5mm, Thermal Pad 5.1x5.1mm, IPC Medium Density)
footprint CYP-LTX48A_L (QFN, 48-Leads, Body 7x7mm, Pitch 0.5mm, Thermal Pad 5.1x5.1mm, IPC High Density)
footprint CYP-LTX48A_M (QFN, 48-Leads, Body 7x7mm, Pitch 0.5mm, Thermal Pad 5.1x5.1mm, IPC Low Density)
pins: 1 NC "No connection", 2 P2[7] (io) "Digital I/O", 3 P2[5] (io) "Digital I/O, crystal out (Xout)", 4 P2[3] (io) "Digital I/O, crystal in (Xin)", 5 P2[1] (io) "Digital I/O", 6 P4[3] (io) "Digital I/O", 7 P4[1] (io) "Digital I/O", 8 P3[7] (io) "Digital I/O", 9 P3[5] (io) "Digital I/O", 10 P3[3] (io) "Digital I/O", 11 P3[1] (io) "Digital I/O", 12 P1[7] (io) "Digital I/O, I2C SCL, SPI SS", 13 P1[5] (io) "Digital I/O, I2C SDA, SPI MISO", 14 NC "No connection", 15 NC "No connection", 16 P1[3] (io) "Digital I/O, SPI CLK", 17 P1[1] (io) "Digital I/O, ISSP CLK, I2C SCL, SPI MOSI", 18 VSS (power) "Supply ground", 19 D+ (io) "USB", 20 D- (io) "USB", 21 VDD (power) "Supply voltage", 22 P1[0] (io) "Digital I/O, ISSP DATA, I2C SDA, SPI CLK", 23 P1[2] (io) "Digital I/O", 24 P1[4] (io) "Digital I/O, optional external clock input (EXTCLK)", 25 P1[6] (io) "Digital I/O", 26 EXT RESET (in) "Active high external reset with internal pull down", 27 P3[0] (io) "Digital I/O", 28 P3[2] (io) "Digital I/O", 29 P3[4] (io) "Digital I/O", 30 P3[6] (io) "Digital I/O", 31 P4[0] (io) "Digital I/O", 32 P4[2] (io) "Digital I/O", 33 P2[0] (io) "Digital I/O", 34 P2[2] (io) "Digital I/O", 35 P2[4] (io) "Digital I/O", 36 P2[6] (io) "Digital I/O", 37 P0[0] (io) "Digital I/O", 38 P0[2] (io) "Digital I/O", 39 P0[4] (io) "Digital I/O", 40 P0[6] (io) "Digital I/O", 41 VDD (power) "Supply voltage", 42 NC "No connection", 43 NC "No connection", 44 P0[7] (io) "Digital I/O", 45 P0[5] (io) "Digital I/O", 46 P0[3] (io) "Digital I/O", 47 VSS (power) "Supply ground", 48 P0[1] (io) "Digital I/O", 49 EP (power) "Ensure the center pad is connected to ground"

## CY7C64713-56LTXC
designator U?
EZ-USB FX1(TM) USB Microcontroller Full Speed USB Peripheral Controller, 16 KB, 24 I/Os, 3.15 to 3.45 V, 0 to 70 degC, 56-Pin QFN (LTX56), Tray; Manufacturer: Cypress; PartNumber: CY7C64713-56LTXC; Max. Operating Voltage (V): 3.45; Memory Architecture: RAM; Memory Size (KB): 16; Min. Operating Voltage (V): 3.15; No. of I/Os: 24; DatasheetVersion: Rev. *L; PackageVersion: Rev. *D; PackageReference: LTX56; PackageDescription: 56-Pin Sawn QFN, Body 8 x 8 mm, Pitch 0.5 mm; Supplier 1: Digi-Key; Supplier Part Number 1: 428-2929-ND; Supplier 2: Newark; Supplier Part Number 2: 50R9442; Supplier 3: Mouser; Supplier Part Number 3: 727-CY7C64713-56LTXC; CPU Core: Enhanced 8051; Max. Operating Temp. (degreesC): 70; Min. Operating Temp. (degreesC): 0; Packing: Tray; RoHS: Pb-Free; Mounting Technology: Surface Mount; Code_JEDEC: MO-220; ComponentLink1Description: Manufacturer URL; ComponentLink1URL: http://www.cypress.com/; ComponentLink2Description: Datasheet; ComponentLink2URL: http://www.cypress.com/?docID=48215; ComponentLink3Description: Package Specification; ComponentLink3URL: http://www.cypress.com/?docID=47572
footprint CYP-LTX56-5200X4500TP_N (QFN, 56-Leads, Body 8.1x8.1mm, Pitch 0.5mm, Thermal Pad 5.2x4.5mm, IPC Medium Density)
footprint CYP-LTX56-5200X4500TP_L (QFN, 56-Leads, Body 8.1x8.1mm, Pitch 0.5mm, Thermal Pad 5.2x4.5mm, IPC High Density)
footprint CYP-LTX56-5200X4500TP_M (QFN, 56-Leads, Body 8.1x8.1mm, Pitch 0.5mm, Thermal Pad 5.2x4.5mm, IPC Low Density)
part A pins: 18 PB0/FD0 (io), 19 PB1/FD1 (io), 20 PB2/FD2 (io), 21 PB3/FD3 (io), 22 PB4/FD4 (io), 23 PB5/FD5 (io), 24 PB6/FD6 (io), 25 PB7/FD7 (io), 33 PA0/INT0# (io), 34 PA1/INT1# (io), 35 PA2/SLOE (io), 36 PA3/WU2 (io), 37 PA4/FIFOADR0 (io), 38 PA5/FIFOADR1 (io), 39 PA6/PKTEND (io), 40 PA7/FLAGD/SLCS# (io), 45 PD0/FD8 (io), 46 PD1/FD9 (io), 47 PD2/FD10 (io), 48 PD3/FD11 (io), 49 PD4/FD12 (io), 50 PD5/FD13 (io), 51 PD6/FD14 (io), 52 PD7/FD15 (io)
part B pins: 1 RDY0/SLRD (in), 2 RDY1/SLWR (in), 4 XTALOUT "Crystal Output. Connect this signal to a 24 MHz parallel-resonant, fundamental mode crystal and load capacitor to GND. If an external clock is used to drive XTALIN, leave this pin open.", 5 XTALIN (in) "Crystal Input. Connect this signal to a 24 MHz parallel-resonant, fundamental mode crystal and load capacitor to GND. It is also correct to drive the XTALIN with an external 24 MHz square wave derived from another clock (See Datasheet)", 8 DPLUS (io) "USB D+ Signal. Connect to the USB D+ signal.", 9 DMINUS (io) "USB D- Signal. Connect to the USB D- signal.", 13 IFCLK (io) "Interface Clock, used for synchronously clocking data into/out of the slave FIFOs. IFCLK also serves as a timing reference for all slave FIFO control signals and GPIF. When internal clocking is used (IFCONFIG.7 = 1) the (See Datasheet)", 15 SCL (io) "Clock for the I2C interface. Connect to VCC with a 2.2K resistor, even if no I2C peripheral is attached.", 16 SDA (io) "Data for I2C interface. Connect to VCC with a 2.2K resistor, even if no I2C peripheral is attached.", 29 CTL0/FLAGA (hiz), 30 CTL1/FLAGB (hiz), 31 CTL2/FLAGC (hiz), 42 RESET# (in) "Active LOW Reset. Resets the entire chip. See the section Reset and Wakeup on page 8 for more details.", 44 WAKEUP (in) "USB Wakeup. If the 8051 is in suspend, asserting this pin starts up the oscillator and interrupts the 8051 to allow it to exit the suspend mode. Holding WAKEUP asserted inhibits the EZ-USB FX1 chip from suspending. This pin (See Datasheet)", 54 CLKOUT (hiz) "CLKOUT. 12, 24/48 MHz clock, phase locked to the 24 MHz input clock. The 8051 defaults to 12 MHz operation. The 8051 may three-state this output by setting CPUCS.1 = 1."
part C pins: 3 AVCC (power) "Analog VCC. Connect this pin to 3.3 V power source. This signal provides power to the analog section of the chip.", 6 AGND (power) "Analog Ground. Connect to ground with as short a path as possible.", 7 AVCC (power) "Analog VCC. Connect this pin to 3.3 V power source. This signal provides power to the analog section of the chip.", 10 AGND (power) "Analog Ground. Connect to ground with as short a path as possible.", 11 VCC (power) "VCC. Connect to 3.3 V power source.", 12 GND (power) "Ground.", 14 RESERVED (power) "Reserved. Connect to ground.", 17 VCC (power) "VCC. Connect to 3.3 V power source.", 26 GND (power) "Ground.", 27 VCC (power) "VCC. Connect to 3.3 V power source.", 28 GND (power) "Ground.", 32 VCC (power) "VCC. Connect to 3.3 V power source.", 41 GND (power) "Ground.", 43 VCC (power) "VCC. Connect to 3.3 V power source.", 53 GND (power) "Ground.", 55 VCC (power) "VCC. Connect to 3.3 V power source.", 56 GND (power) "Ground.", 57 EP

## CY7C64713-56PVXC
designator U?
EZ-USB FX1(TM) USB Microcontroller Full Speed USB Peripheral Controller, 16 KB, 24 I/Os, 3.15 to 3.45 V, 0 to 70 degC, 56-Pin SSOP (PVX56); Manufacturer: Cypress; PartNumber: CY7C64713-56PVXC; Max. Operating Voltage (V): 3.45; Memory Architecture: RAM; Memory Size (KB): 16; Min. Operating Voltage (V): 3.15; No. of I/Os: 24; DatasheetVersion: Rev. *L; PackageVersion: Rev. *F, 08/2012; PackageReference: PVX56; PackageDescription: 56-Pin Shrunk Small Outline Package, Body 7.506 x 18.415 mm, Pitch 0.635 mm; Supplier 1: Mouser; Supplier Part Number 1: 727-CYC6471356PVXC; CPU Core: Enhanced 8051; Max. Operating Temp. (degreesC): 70; Min. Operating Temp. (degreesC): 0; RoHS: Pb-Free; Mounting Technology: Surface Mount; ComponentLink1Description: Manufacturer URL; ComponentLink1URL: http://www.cypress.com/; ComponentLink2Description: Datasheet; ComponentLink2URL: http://www.cypress.com/?docID=48215; ComponentLink3Description: Package Specification; ComponentLink3URL: http://www.cypress.com/?docID=39259
footprint CYP-PVX56_N (SOP, 56-Leads, Body 18.415x7.506mm, Pitch 0.635mm , IPC Medium Density)
footprint CYP-PVX56_L (SOP, 56-Leads, Body 18.415x7.506mm, Pitch 0.635mm, IPC High Density)
footprint CYP-PVX56_M (SOP, 56-Leads, Body 18.415x7.506mm, Pitch 0.635mm, IPC Low Density)
part A pins: 1 PD5/FD13 (io), 2 PD6/FD14 (io), 3 PD7/FD15 (io), 25 PB0/FD0 (io), 26 PB1/FD1 (io), 27 PB2/FD2 (io), 28 PB3/FD3 (io), 29 PB4/FD4 (io), 30 PB5/FD5 (io), 31 PB6/FD6 (io), 32 PB7/FD7 (io), 40 PA0/INT0# (io), 41 PA1/INT1# (io), 42 PA2/SLOE (io), 43 PA3/WU2 (io), 44 PA4/FIFOADR0 (io), 45 PA5/FIFOADR1 (io), 46 PA6/PKTEND (io), 47 PA7/FLAGD/SLCS# (io), 52 PD0/FD8 (io), 53 PD1/FD9 (io), 54 PD2/FD10 (io), 55 PD3/FD11 (io), 56 PD4/FD12 (io)
part B pins: 5 CLKOUT (hiz) "CLKOUT. 12, 24/48 MHz clock, phase locked to the 24 MHz input clock. The 8051 defaults to 12 MHz operation. The 8051 may three-state this output by setting CPUCS.1 = 1.", 8 RDY0/SLRD (in), 9 RDY1/SLWR (in), 11 XTALOUT "Crystal Output. Connect this signal to a 24 MHz parallel-resonant, fundamental mode crystal and load capacitor to GND. If an external clock is used to drive XTALIN, leave this pin open.", 12 XTALIN (in) "Crystal Input. Connect this signal to a 24 MHz parallel-resonant, fundamental mode crystal and load capacitor to GND. It is also correct to drive the XTALIN with an external 24 MHz square wave derived from another clock (See Datasheet)", 15 DPLUS (io) "USB D+ Signal. Connect to the USB D+ signal.", 16 DMINUS (io) "USB D- Signal. Connect to the USB D- signal.", 20 IFCLK (io) "Interface Clock, used for synchronously clocking data into/out of the slave FIFOs. IFCLK also serves as a timing reference for all slave FIFO control signals and GPIF. When internal clocking is used (IFCONFIG.7 = 1) the (See Datasheet)", 22 SCL (io) "Clock for the I2C interface. Connect to VCC with a 2.2K resistor, even if no I2C peripheral is attached.", 23 SDA (io) "Data for I2C interface. Connect to VCC with a 2.2K resistor, even if no I2C peripheral is attached.", 36 CTL0/FLAGA (hiz), 37 CTL1/FLAGB (hiz), 38 CTL2/FLAGC (hiz), 49 RESET# (in) "Active LOW Reset. Resets the entire chip. See the section Reset and Wakeup on page 8 for more details.", 51 WAKEUP (in) "USB Wakeup. If the 8051 is in suspend, asserting this pin starts up the oscillator and interrupts the 8051 to allow it to exit the suspend mode. Holding WAKEUP asserted inhibits the EZ-USB FX1 chip from suspending. This pin (See Datasheet)"
part C pins: 4 GND (power) "Ground.", 6 VCC (power) "VCC. Connect to 3.3 V power source.", 7 GND (power) "Ground.", 10 AVCC (power) "Analog VCC. Connect this pin to 3.3 V power source. This signal provides power to the analog section of the chip.", 13 AGND (power) "Analog Ground. Connect to ground with as short a path as possible.", 14 AVCC (power) "Analog VCC. Connect this pin to 3.3 V power source. This signal provides power to the analog section of the chip.", 17 AGND (power) "Analog Ground. Connect to ground with as short a path as possible.", 18 VCC (power) "VCC. Connect to 3.3 V power source.", 19 GND (power) "Ground.", 21 RESERVED (power) "Reserved. Connect to ground.", 24 VCC (power) "VCC. Connect to 3.3 V power source.", 33 GND (power) "Ground.", 34 VCC (power) "VCC. Connect to 3.3 V power source.", 35 GND (power) "Ground.", 39 VCC (power) "VCC. Connect to 3.3 V power source.", 48 GND (power) "Ground.", 50 VCC (power) "VCC. Connect to 3.3 V power source."

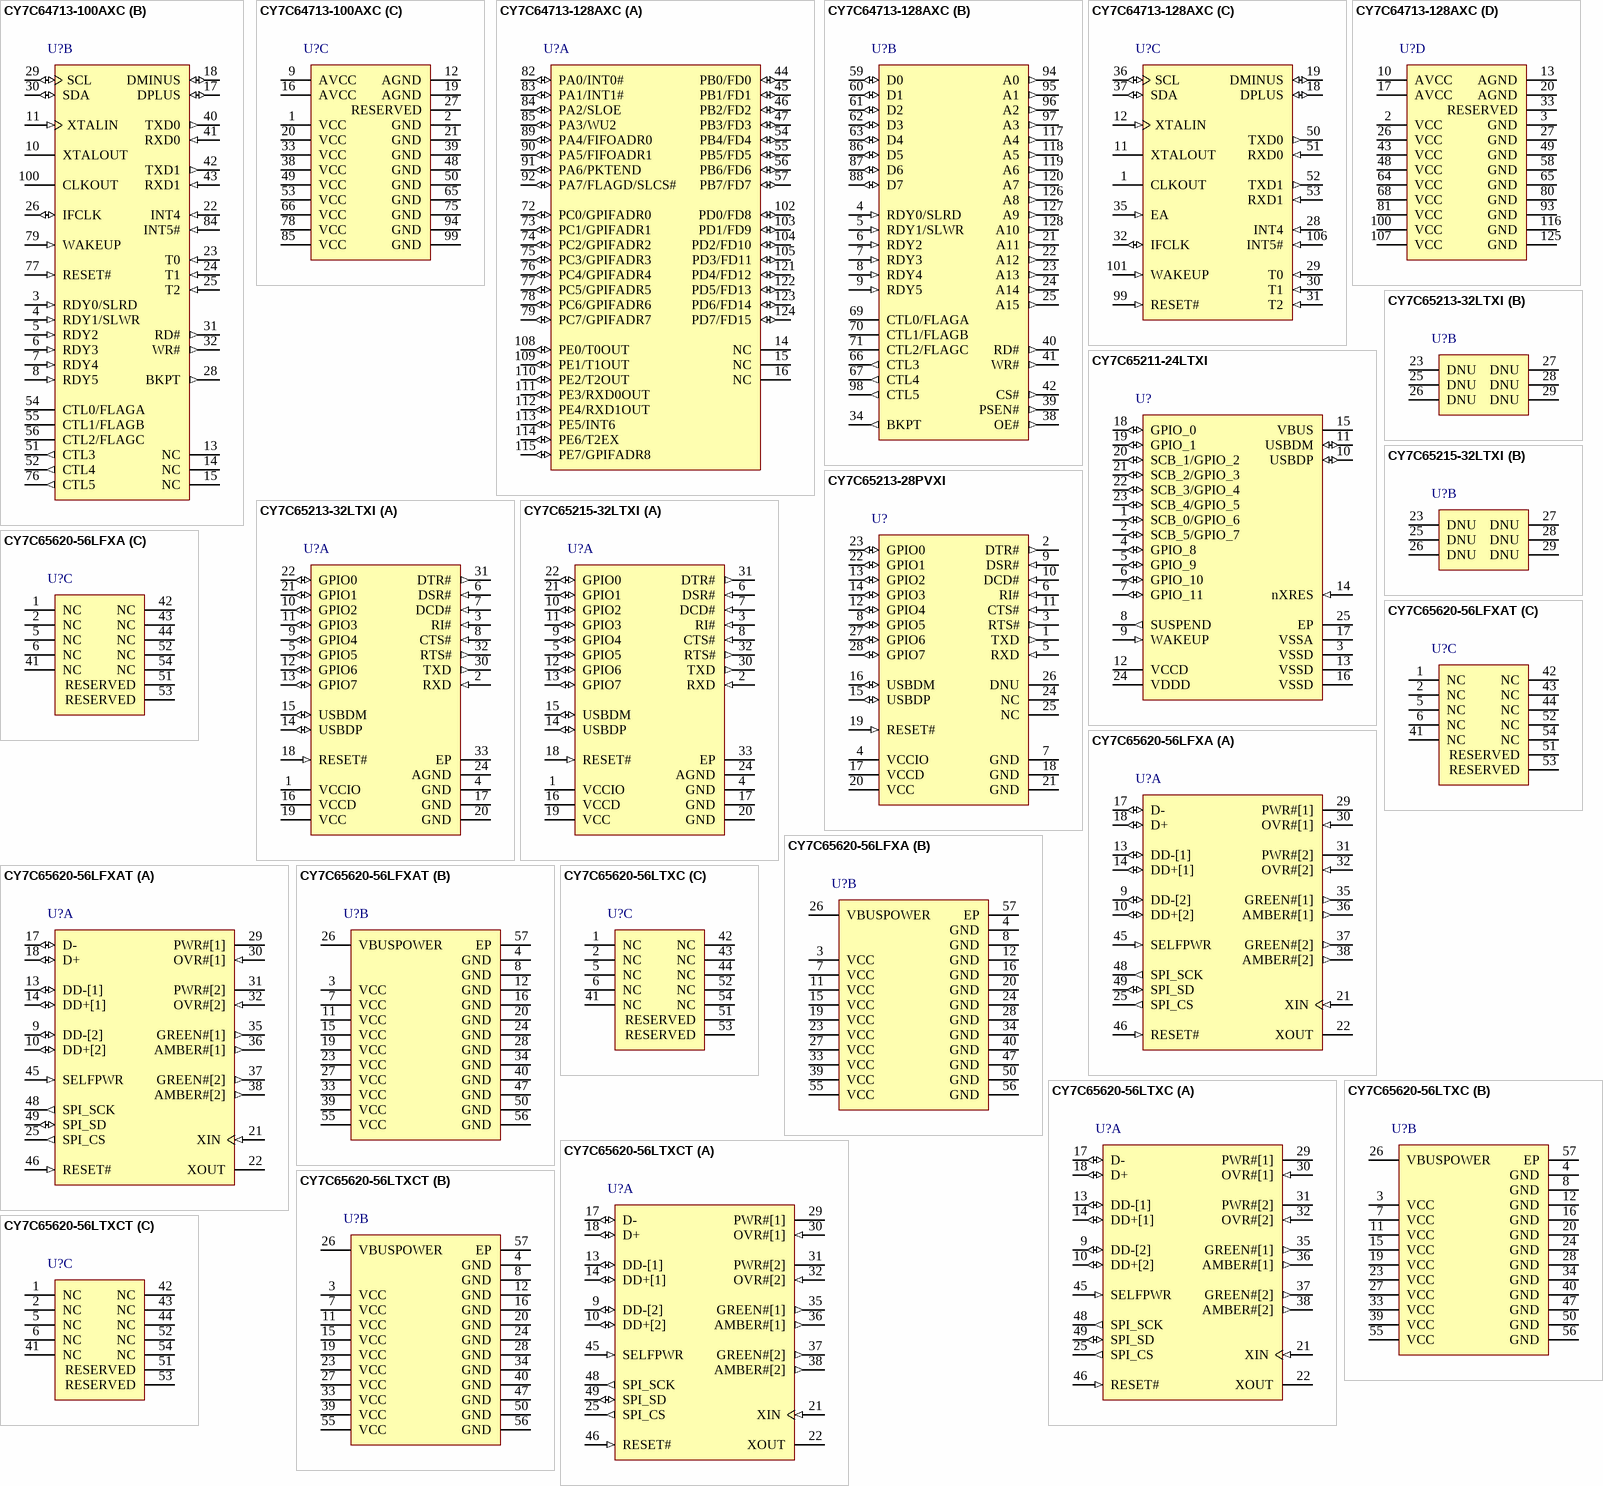
[diagram p3: symbols CY7C64713-100AXC to CY7C65620-56LTXCT]